# Altium footprint library IC_Broadcom_ACPL-C87A-000E_eec_IPC_A.PcbLib: 1 footprints
Each footprint in its own frame and in the unit in brackets; x right, y up, seen from the top. Pads: shape width x height; smd on the part's side, far side on the other; paste and mask are expansions set on the pad; w line width, h text height; cw(c..) or ccw(c..) is an arc to the next point about the centre after c.
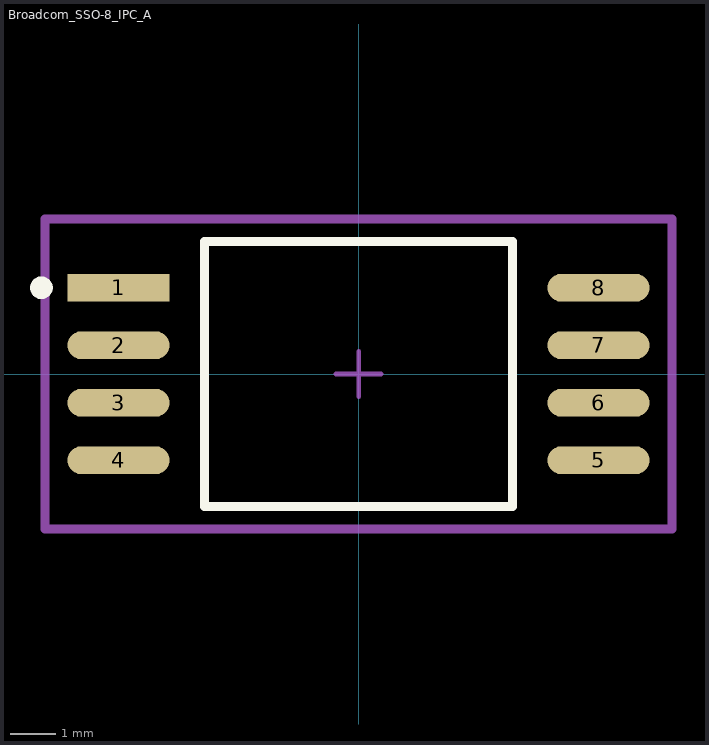
[diagram p0: the footprint, top view; thin cyan lines are the x and y axes]

## Broadcom_SSO-8_IPC_A [mil]
pads (8):
  rect 88.74x24.32 smd paste+0 mask+0: 1(-208.68,75)
  oval 88.74x24.32 smd paste+0 mask+0: 2(-208.68,25) 3(-208.68,-25) 4(-208.68,-75) 5(208.68,-75) 6(208.68,-25) 7(208.68,25) 8(208.68,75)
Top Overlay:
  circle w9.84: c-275.69,75 r4.92
  lines w7.87: -134,-115.16 134,-115.16 134,115.16 -134,115.16 -134,-115.16
Mechanical 10:
  lines w7.87: -272.74,-134.84 272.74,-134.84 272.74,134.84 -272.74,134.84 -272.74,-134.84
  text ".Designator" at 0,0 h39.37
Mechanical 12:
  lines w5.91: -134,-115.16 134,-115.16 134,115.16 -134,115.16 -134,-115.16
Mechanical 15:
  lines w3.94: -19.68,0 19.68,0 ; 0,-19.68 0,19.68
  lines w7.87: -272.74,-134.84 272.74,-134.84 272.74,134.84 -272.74,134.84 -272.74,-134.84
3D body "IC_Broadcom_ACPL-C87A-000E_eec.STEP": height 10, standoff 0, extent -272.74,-134.84 272.74,134.84